# Altium footprint library 6_to_14_Pin.PcbLib: 65 footprints (part 4 of 5)
Each footprint in its own frame and in the unit in brackets; x right, y up, seen from the top. Pads: shape width x height; smd on the part's side, far side on the other; paste and mask are expansions set on the pad; w line width, h text height; cw(c..) or ccw(c..) is an arc to the next point about the centre after c.
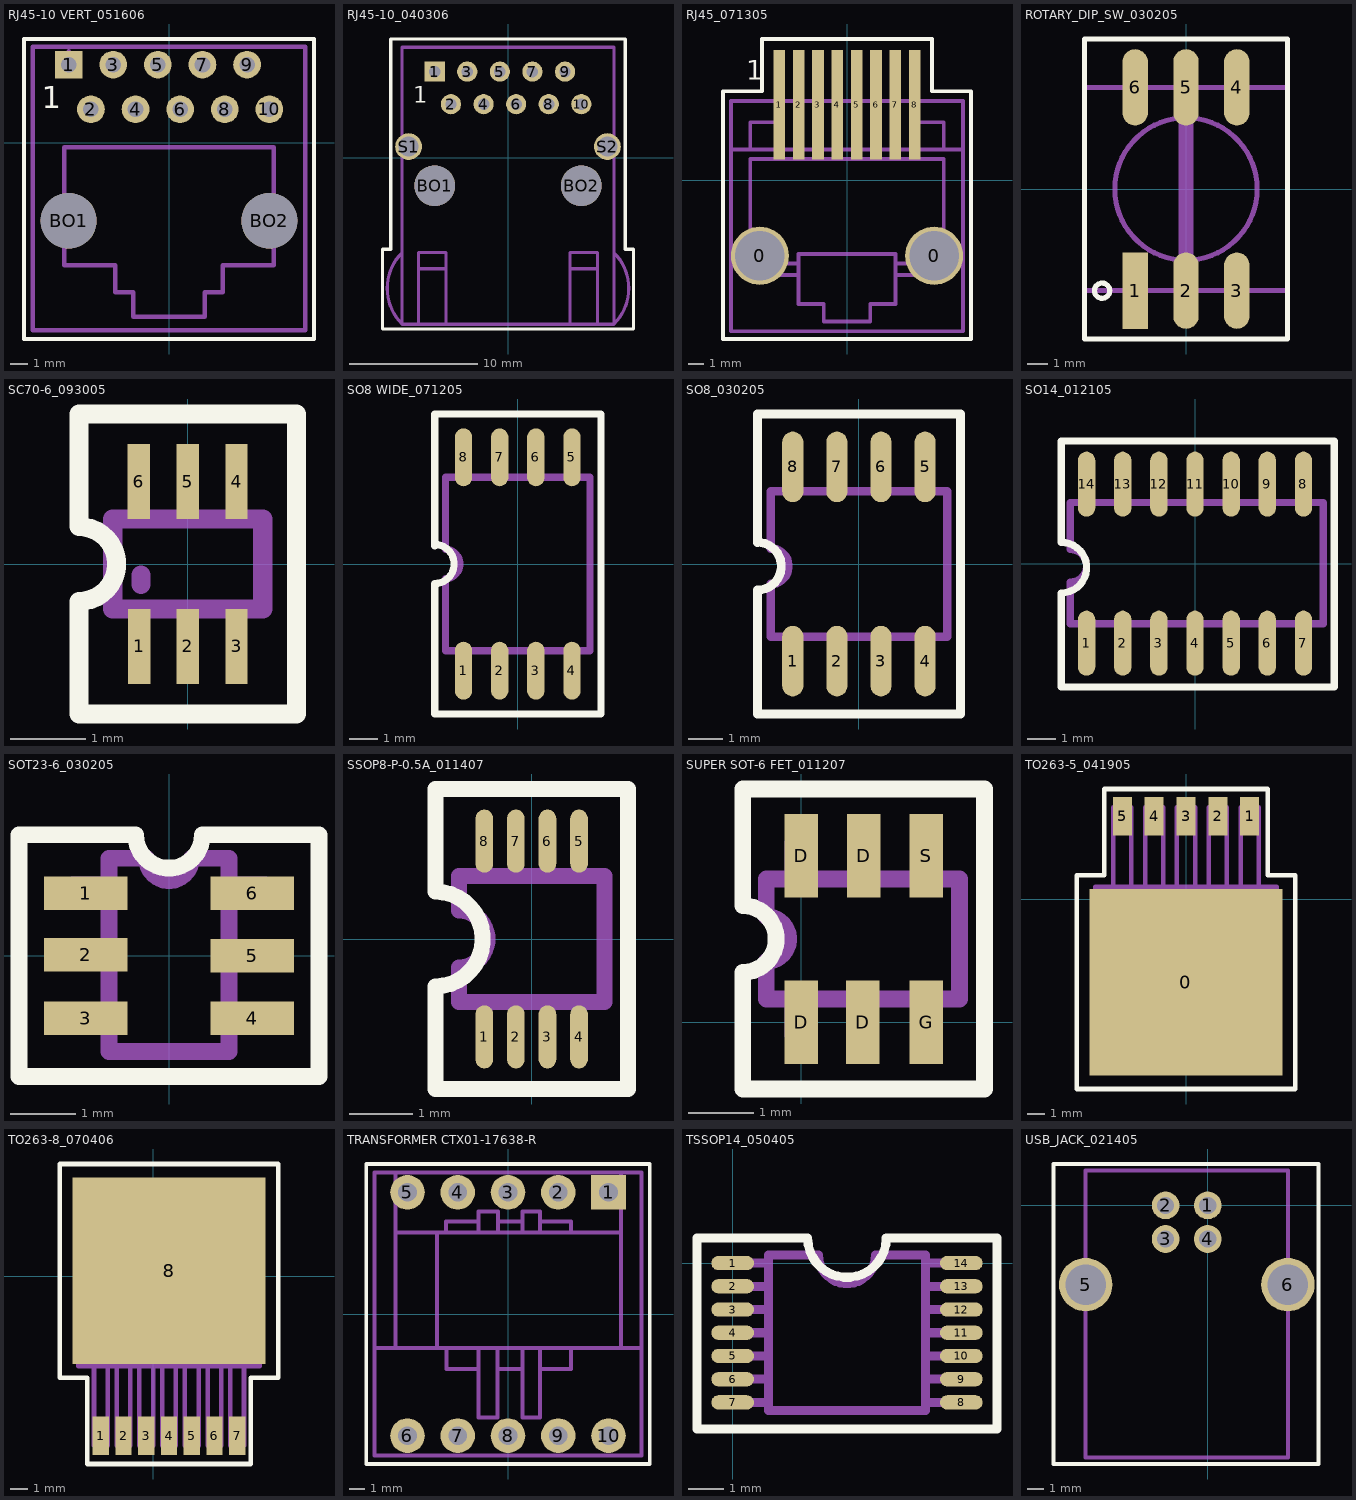
[diagram p3: the footprints below, top view; thin cyan lines are the x and y axes]

## RJ45-10 VERT_051606 [mil] "TH"
height 645
pads (12):
  rect 62x62 hole 35: 1(-225,175)
  round 62 hole 35: 2(-175,75) 3(-125,175) 4(-75,75) 5(-25,175) 6(25,75) 7(75,175) 8(125,75) 9(175,175) 10(225,75)
  round 125 hole 125 unplated: BO1(-225,-175) BO2(225,-175)
Top Overlay:
  lines w10: -325,-440 -325,0 -325,232.5 0,232.5 325,232.5 325,0 325,-440 -325,-440
  text "1" at -285,77.5 h50
Assembly Outline:
  lines w10: -225,-420 0,-420 ; -225,175 -225,205 ; -305,-420 305,-420 305,215 -305,215 -305,-420 ; -235,-275 -235,-10 0,-10 235,-10 235,-275 120,-275 120,-335 80,-335 80,-390 0,-390 -80,-390 -80,-335 -120,-335 -120,-275 -235,-275
Assembly Designator:
  text ".Designator" at -52.5,-87.5 h40
Assembly Comment:
  text ".Comment" at -207.5,-312.5 h40

## RJ45-10_040306 [mil] "TH"
height 600
pads (14):
  rect 62x62 hole 35: 1(-225,265)
  round 62 hole 35: 2(-175,165) 3(-125,265) 4(-75,165) 5(-25,265) 6(25,165) 7(75,265) 8(125,165) 9(175,265) 10(225,165)
  round 125 hole 125 unplated: BO1(-225,-85) BO2(225,-85)
  round 82 hole 62 unplated: S1(-305,35) S2(305,35)
Top Overlay:
  lines w10: -385,-525 0,-525 385,-525 385,-280 360,-280 360,100 360,365 -360,365 -360,100 -360,-280 -385,-280 -385,-525
  text "1" at -290,170 h50
Assembly Outline:
  lines w10: -325,-290 ccw(c-215,-400) -325,-510 ; -275,-510 -275,-290 -190,-290 ; -275,-340 -190,-340 -190,-290 ; -190,-510 -190,-290 ; 190,-510 190,-290 ; 275,-340 190,-340 190,-290 ; 325,-400 325,-510 ; -325,-510 -325,-336 -325,99 -325,340 325,340 325,99 325,-336 325,-510 ; -325,-510 325,-510 ; 190,-290 275,-290 275,-510 325,-510 ; 325,-510 ccw(c215,-400) 325,-290 325,-510
Assembly Designator:
  text ".Designator" at -35,-180 h40
Assembly Comment:
  text ".Comment" at -100,-260 h40

## RJ45_071305 [mil] "SMT"
height 570
pads (10):
  round 150 hole 128 mask+1.5: 0(-225,-195) 0(225,-195)
  rect 30x283 smd mask+1.5: 1(-175,195) 2(-125,195) 3(-75,195) 4(-25,195) 5(25,195) 6(75,195) 7(125,195) 8(175,195)
Top Overlay:
  lines w10: -320,-410 -320,0 -320,230 -220,230 -220,365 0,365 220,365 220,230 320,230 320,0 320,-410 225,-410 0,-410 -225,-410 -320,-410
  text "1" at -260,260 h50
Assembly Outline:
  lines w10: -300,80 300,80 300,205 ; -250,-215 -125,-215 ; -250,80 -250,150 -180,150 -180,80 ; -180,205 -180,295 -170,295 ; -175,295 -170,295 ; -170,205 -170,295 ; -130,205 -130,295 -120,295 ; -125,295 -120,295 ; -120,205 -120,295 ; -80,205 -80,295 -70,295 ; -75,295 -70,295 ; -70,205 -70,295 ; -30,205 -30,295 -20,295 ; -25,295 -20,295 ; -20,205 -20,295 ; 20,205 20,295 30,295 ; 25,295 30,295 ; 30,205 30,295 ; 70,205 70,295 80,295 ; 75,295 80,295 ; 80,205 80,295 ; 120,205 120,295 130,295 ; 125,-215 250,-215 ; 125,295 130,295 ; 130,205 130,295 ; 170,205 170,295 180,295 ; 175,295 180,295 ; 180,80 180,150 250,150 250,80 ; 180,205 180,295 ; -125,-245 -125,-190 0,-190 125,-190 125,-245 ; -125,-245 -125,-320 -60,-320 -60,-365 0,-365 60,-365 60,-320 125,-320 125,-245 ; -125,-245 -250,-245 -250,55 0,55 250,55 250,-245 125,-245 ; 300,205 -300,205 -300,-390 300,-390 300,205
Assembly Designator:
  text ".Designator" at -50,-85 h40
Assembly Comment:
  text ".Comment" at -130,-150 h40

## ROTARY_DIP_SW_030205 [mil] "SMT"
height 370
pads (6):
  rect 50x150 smd: 1(-100,-200)
  oval 50x150 smd: 2(0,-200) 3(100,-200) 4(100,200) 5(0,200) 6(-100,200)
Top Overlay:
  circle w10: c-165,-200 r15
  lines w10: -200,-295 200,-295 200,295 -200,295 -200,-295
Assembly Outline:
  circle w10: c0,0 r140
  region: -110,255 -110,200 -90,200 -90,255
  region: -10,255 -10,200 10,200 10,255
  region: 90,255 90,200 110,200 110,255
  region: 110,-255 110,-200 90,-200 90,-255
  region: -90,-255 -90,-200 -110,-200 -110,-255
  region: 10,-255 10,-200 -10,-200 -10,-255
  lines w10: -200,-200 200,-200 200,200 -200,200 -200,-200
  lines w30: 0,-130 0,130
Assembly Designator:
  text ".Designator" at -43,-77 h40
Assembly Comment:
  text ".Comment" at 186,-182 h40

## SC70-6_093005 [mm] "SMT"
height 1
pads (6):
  rect 0.3x1 smd mask+0.038: 1(-0.65,-1.1) 2(0,-1.1) 3(0.65,-1.1) 4(0.65,1.1) 5(0,1.1) 6(-0.65,1.1)
Top Overlay:
  lines w0.254: -1.45,-2 -1.45,-0.5 ccw(c-1.45,0) -1.45,0.5 -1.45,2 0.375,2 1.45,2 1.45,0 1.45,-2 -0.375,-2 -1.45,-2
Assembly Outline:
  lines w0.254: -1,0 -1,0.6 ; -0.65,-1.1 -0.65,-0.6 ; -0.65,0.6 -0.65,1.1 ; -0.625,-0.275 -0.625,-0.15 ; 0,-1.1 0,-0.6 ; 0,1.1 0,0.6 -1,0.6 ; 0.65,-1.1 0.65,-0.6 ; 0.65,0.6 0.65,1.1 ; -1,-0.6 1,-0.6 ; -1,-0.6 -1,0.6 ; -1,-0.6 1,-0.6 ; -1,0.6 1,0.6 1,-0.6
Assembly Designator:
  text ".Designator" at 1.8,-0.475 h1.02
Assembly Comment:
  text ".Comment" at -1.825,-3.5 h1.02

## SO8 WIDE_071205 [mil] "SMT"
height 80
pads (8):
  oval 24x80 smd: 1(-75,-147.5) 2(-25,-147.5) 3(25,-147.5) 4(75,-147.5) 5(75,147.5) 6(25,147.5) 7(-25,147.5) 8(-75,147.5)
Top Overlay:
  lines w10: -115,25 -115,207.5 115,207.5 115,-207.5 -115,-207.5 -115,-27.04 ccw(c-115,0) -115,27.04
Assembly Outline:
  lines w10: -80,-120 -80,-147.5 -70,-147.5 -70,-120 ; -80,120 -80,147.5 -70,147.5 -70,120 ; -30,-120 -30,-147.5 -20,-147.5 -20,-120 ; -30,120 -30,147.5 -20,147.5 -20,120 ; 20,-120 20,-147.5 30,-147.5 30,-120 ; 20,120 20,147.5 30,147.5 30,120 ; 70,-120 70,-147.5 80,-147.5 80,-120 ; 70,120 70,147.5 80,147.5 80,120 ; -100,-120 100,-120 100,120 -100,120 -100,20 cw(c-100,0) -100,-20 -100,-120
Assembly Designator:
  text ".Designator" at -55,-15.5 h40
Assembly Comment:
  text ".Comment" at -116,-229.5 h40

## SO8_030205 [mil] "SMT"
height 70
pads (8):
  oval 24x80 smd: 1(-75,-110) 2(-25,-110) 3(25,-110) 4(75,-110) 5(75,110) 6(25,110) 7(-25,110) 8(-75,110)
Top Overlay:
  lines w10: -115,-170 -115,-29.54 ccw(c-115,-2.5) -115,24.54 -115,170 115,170 115,-170 -115,-170
Assembly Outline:
  lines w10: -80,-82.5 -80,-110 -70,-110 -70,-82.5 ; -80,82.5 -80,110 -70,110 -70,82.5 ; -30,-82.5 -30,-110 -20,-110 -20,-82.5 ; -30,82.5 -30,110 -20,110 -20,82.5 ; 20,-82.5 20,-110 30,-110 30,-82.5 ; 20,82.5 20,110 30,110 30,82.5 ; 70,-82.5 70,-110 80,-110 80,-82.5 ; 70,82.5 70,110 80,110 80,82.5 ; -100,-82.5 -100,-22.5 ccw(c-100,-2.5) -100,17.5 -100,82.5 100,82.5 100,-82.5 -100,-82.5
Assembly Designator:
  text ".Designator" at -55,22 h40
Assembly Comment:
  text ".Comment" at -116,-192 h40

## SO14_012105 [mil] "SMT"
height 75
pads (14):
  oval 24x90 smd: 1(-150,-110) 2(-100,-110) 3(-50,-110) 4(0,-110) 5(50,-110) 6(100,-110) 7(150,-110) 8(150,110) 9(100,110) 10(50,110) 11(0,110) 12(-50,110) 13(-100,110) 14(-150,110)
Top Overlay:
  lines w10: -185,-170.46 -185,-40.46 ccw(c-185,-5.46) -185,29.54 -185,169.54 192.5,169.54 192.5,-170.46 -185,-170.46
Assembly Outline:
  lines w10: -155,84.54 -155,112.04 -145,112.04 -145,84.54 ; -145,-82.96 -145,-110.46 -155,-110.46 -155,-82.96 ; -105,-82.96 -105,-110.46 -95,-110.46 -95,-82.96 ; -105,84.54 -105,112.04 -95,112.04 -95,84.54 ; -55,-82.96 -55,-110.46 -45,-110.46 -45,-82.96 ; -55,84.54 -55,112.04 -45,112.04 -45,84.54 ; -5,-82.96 -5,-110.46 5,-110.46 5,-82.96 ; -5,84.54 -5,112.04 5,112.04 5,84.54 ; 45,-82.96 45,-110.46 55,-110.46 55,-82.96 ; 45,84.54 45,112.04 55,112.04 55,84.54 ; 95,-82.96 95,-110.46 105,-110.46 105,-82.96 ; 95,84.54 95,112.04 105,112.04 105,84.54 ; 145,-82.96 145,-110.46 155,-110.46 155,-82.96 ; 145,84.54 145,112.04 155,112.04 155,84.54 ; -155,-82.96 -172.5,-82.96 -172.5,-25.46 ccw(c-172.5,-2.96) -172.5,19.54 -172.5,84.54 177.5,84.54 177.5,-82.96 -155,-82.96
Assembly Designator:
  text ".Designator" at -72,-56 h40
Assembly Comment:
  text ".Comment" at -143,17 h40

## SOT23-6_030205 [mil] "SMT"
height 50
pads (6):
  rect 50x20 smd mask+1.5: 1(-50,37.5) 2(-50,0.5) 3(-50,-37.5) 4(50,-37.5) 5(50,0) 6(50,37.5)
Top Overlay:
  lines w10: -90,-72.5 90,-72.5 90,72.5 20,72.5 cw(c0,72.5) -20,72.5 -90,72.5 -90,-37.5 -90,-72.5
Assembly Outline:
  lines w10: -36,-41.5 -58,-41.5 -58,-33.5 -38,-33.5 -36,-31.5 ; -36,-3.5 -58,-3.5 -58,4.5 -36,4.5 ; -36,34.5 -58,34.5 -58,42.5 -36,42.5 ; 36,-41.5 58,-41.5 58,-33.5 36,-33.5 ; 36,-3.5 58,-3.5 58,4.5 36,4.5 ; 36,34.5 58,34.5 58,42.5 36,42.5 ; -36,-57.5 -36,58.5 -13.5,58.5 ccw(c0,58.5) 13.5,58.5 36,58.5 36,-57.5 -36,-57.5
Assembly Designator:
  text ".Designator" at -20,45 h40
Assembly Comment:
  text ".Comment" at 84,69 h40

## SSOP8-P-0.5A_011407 [mm] "SMT"
height 0.7
pads (8):
  oval 0.28x1 smd mask+0.05: 1(-0.75,-1.55) 2(-0.25,-1.55) 3(0.25,-1.55) 4(0.75,-1.55) 5(0.75,1.55) 6(0.25,1.55) 7(-0.25,1.55) 8(-0.75,1.55)
Top Overlay:
  lines w0.254: -1.525,-2.375 0,-2.375 1.525,-2.375 1.525,-0.525 1.525,0 1.525,0.525 1.525,2.375 0,2.375 -1.525,2.375 -1.525,0.75 cw(c-1.525,0) -1.525,-0.75 -1.525,-2.375
Assembly Outline:
  lines w0.254: -0.75,-1.55 -0.75,-1 ; -0.75,1 -0.75,1.55 ; -0.25,-1.55 -0.25,-1 ; -0.25,1 -0.25,1.55 ; 0,1 -1.15,1 ; 0.25,-1.55 0.25,-1 ; 0.25,1 0.25,1.55 ; 0.75,-1.55 0.75,-1 ; 0.75,1 0.75,1.55 ; -1.15,1 -1.15,0.45 cw(c-1.15,0) -1.15,-0.45 -1.15,-1 0.525,-1 1.15,-1 1.15,1 -1.15,1
Assembly Designator:
  text ".Designator" at -0.725,-0.475 h1.02
Assembly Comment:
  text ".Comment" at -1.3,-3.925 h1.02

## SUPER SOT-6 FET_011207 [mil] "SMT"
height 31.5
pads (6):
  rect 20x50 smd mask+1.5: D(0,0) D(0,100) D(37.01,0) D(37.52,100) G(75,0) S(75,100)
Top Overlay:
  lines w10: -35,-40 75,-40 110,-40 110,140 -35,140 -35,70 cw(c-35,50) -35,30 -35,-40
Assembly Outline:
  lines w10: -5,14 -5,-8 3,-8 3,14 ; -5,86 -5,108 3,108 3,86 ; 33,14 33,-8 41,-8 41,14 ; 33,86 33,108 41,108 41,86 ; 69,14 71,12 71,-8 79,-8 79,14 ; 71,86 71,108 79,108 79,86 ; -21,14 95,14 95,86 -21,86 -21,63.5 cw(c-21,50) -21,36.5 -21,14
Assembly Designator:
  text ".Designator" at -7.5,30 h40
Assembly Comment:
  text ".Comment" at -31.5,134 h40

## TO263-5_041905 [mil] "SMT"
height 181.1
pads (6):
  rect 425x410 smd: 0(0,-182.5)
  rect 42x85 smd: 1(140,182.5) 2(70,182.5) 3(0,182.5) 4(-70,182.5) 5(-140,182.5)
Top Overlay:
  lines w10: -240,-417.5 0,-417.5 240,-417.5 240,52.5 180,52.5 180,242.5 -180,242.5 -180,52.5 -240,52.5 -240,-417.5
Assembly Outline:
  lines w10: -160,27.5 -160,202.5 ; -140,27.5 -70,27.5 0,27.5 70,27.5 140,27.5 ; -120,27.5 -120,202.5 ; -90,27.5 -90,202.5 ; -50,27.5 -50,202.5 ; -20,27.5 -20,202.5 ; 20,27.5 20,202.5 ; 50,27.5 50,202.5 ; 90,27.5 90,202.5 ; 120,27.5 120,202.5 ; 160,27.5 160,202.5 ; -200,-312.5 200,-312.5 ; -200,-312.5 -130,-362.5 0,-362.5 130,-362.5 200,-312.5 ; -200,-312.5 -200,27.5 200,27.5 200,-312.5 ; -160,202.5 -140,202.5 -120,202.5 ; -160,202.5 -120,202.5 ; -90,202.5 -70,202.5 -50,202.5 ; -90,202.5 -50,202.5 ; -20,202.5 0,202.5 20,202.5 ; -20,202.5 20,202.5 ; 50,202.5 70,202.5 90,202.5 ; 50,202.5 90,202.5 ; 120,202.5 140,202.5 160,202.5 ; 120,202.5 160,202.5
Assembly Designator:
  text ".Designator" at -52,-204.5 h40
Assembly Comment:
  text ".Comment" at -76,-100.5 h40

## TO263-8_070406 [mil] "SMT"
height 181.1
pads (8):
  rect 36x85 smd mask+1.5: 1(-115,-350) 2(-65,-350) 3(-15,-350) 4(35,-350) 5(85,-350) 6(135,-350) 7(185,-350)
  rect 425x410 smd: 8(35,12.5)
Top Overlay:
  lines w10: -205,-222.5 -145,-222.5 -145,-412.5 215,-412.5 215,-222.5 275,-222.5 275,247.5 35,247.5 -205,247.5 -205,-222.5
Assembly Outline:
  lines w10: -130,-197.5 -130,-372.5 -115,-372.5 -100,-372.5 -100,-197.5 ; -80,-197.5 -80,-372.5 -65,-372.5 -50,-372.5 -50,-197.5 ; -30,-197.5 -30,-372.5 -15,-372.5 0,-372.5 0,-197.5 ; -15,-197.5 35,-197.5 ; 20,-197.5 20,-372.5 35,-372.5 50,-372.5 50,-197.5 ; 70,-197.5 70,-372.5 85,-372.5 100,-372.5 100,-197.5 ; 120,-197.5 120,-372.5 135,-372.5 150,-372.5 150,-197.5 ; 170,-197.5 170,-372.5 185,-372.5 200,-372.5 200,-197.5 ; -165,142.5 -95,192.5 35,192.5 165,192.5 235,142.5 ; -165,142.5 235,142.5 ; -165,142.5 -165,-197.5 235,-197.5 235,142.5
Assembly Designator:
  text ".Designator" at 0,-45 h40
Assembly Comment:
  text ".Comment" at -125,-135 h40

## TRANSFORMER CTX01-17638-R [mm] "TH"
height 18
pads (10):
  rect 2.2x2.2 hole 1.2: 1(6.4,7.75)
  round 2.2 hole 1.2: 2(3.2,7.75) 3(0,7.75) 4(-3.2,7.75) 5(-6.4,7.75) 6(-6.4,-7.75) 7(-3.2,-7.75) 8(0,-7.75) 9(3.2,-7.75) 10(6.4,-7.75)
Top Overlay:
  lines w0.254: -9.025,-9.55 -5.225,-9.55 0,-9.55 5.225,-9.55 9.025,-9.55 9.025,-0.75 9.025,0 9.025,0.75 9.025,9.55 5.225,9.55 0,9.55 -5.225,9.55 -9.025,9.55 -9.025,0.75 -9.025,0 -9.025,-0.75 -9.025,-9.55
Assembly Outline:
  lines w0.254: -8.5,-2.175 8.5,-2.175 ; -8.5,2.175 -8.5,-9 ; -7.95,-2.175 -7.175,-2.175 -7.175,0.575 -7.175,9 ; -7.175,-9 -6.1,-9 ; -7.175,5.2 7.2,5.2 ; -4.525,-2.175 -4.525,5.2 -3.35,5.2 ; -3.95,5.2 -3.95,5.9 -3.05,5.9 -1.875,5.9 ; -3.9,-2.175 -3.9,-3.5 -1.875,-3.5 ; -2,5.2 -1.875,5.2 -1.875,5.9 ; -1.875,-2.175 -1.875,-3.5 ; -0.675,-3.5 0.925,-3.5 ; -0.675,-2.175 -0.675,-6.575 -1.15,-6.575 -1.875,-6.575 -1.875,-3.5 ; -0.625,5.2 -0.625,6.525 -1.35,6.525 -1.875,6.525 -1.875,5.9 ; -0.625,5.9 0.925,5.9 ; 0.925,-2.175 0.925,-3.5 ; 0.925,5.2 0.925,5.9 ; 0.925,5.675 0.925,5.9 ; 1.975,5.2 2.025,5.2 2.025,6.525 1.55,6.525 0.925,6.525 0.925,5.9 ; 2.025,-4.1 2.025,-3.5 4.025,-3.5 4.025,-2.175 ; 2.025,-2.175 2.025,-6.575 0.925,-6.575 0.925,-3.5 ; 2.025,5.7 2.025,5.9 4.025,5.9 4.025,5.2 3.975,5.2 ; 7.2,-9 8.5,-9 ; 7.2,-2.175 7.2,5.2 ; 7.2,9 7.2,5.2 ; -8.5,-9 0,-9 8.5,-9 ; -8.5,-9 -8.5,0 -8.5,9 0,9 8.5,9 8.5,0 8.5,-9
Assembly Designator:
  text ".Designator" at -0.975,0.45 h1.02
Assembly Comment:
  text ".Comment" at -4,-1.45 h1.02

## TSSOP14_050405 [mm] "SMT"
height 1.27
pads (14):
  oval 1.2x0.4 smd mask+0.038: 1(0,0) 2(0,-0.65) 3(0,-1.3) 4(0,-1.95) 5(0,-2.6) 6(0,-3.25) 7(0,-3.9) 8(6.4,-3.9) 9(6.4,-3.25) 10(6.4,-2.6) 11(6.4,-1.95) 12(6.4,-1.3) 13(6.4,-0.65) 14(6.4,0)
Top Overlay:
  lines w0.254: -1,-4.65 -1,0.7 2.1,0.7 ccw(c3.2,0.7) 4.3,0.7 7.4,0.7 7.4,-4.65 -1,-4.65
Assembly Outline:
  lines w0.254: 0,-3.9 1,-3.9 ; 0,-3.25 1,-3.25 ; 0,-2.6 1,-2.6 ; 0,-1.95 1,-1.95 ; 0,-1.3 1,-1.3 ; 0,-0.65 1,-0.65 ; 0,0 1,0 ; 3.2,-4.125 5.4,-4.125 ; 4.8,-4.125 1,-4.125 ; 5.4,-3.9 6.4,-3.9 ; 5.4,-3.25 6.4,-3.25 ; 5.4,-2.6 6.4,-2.6 ; 5.4,-1.95 6.4,-1.95 ; 5.4,-1.3 6.4,-1.3 ; 5.4,-0.65 6.4,-0.65 ; 5.4,0 6.4,0 ; 1,-4.125 1,-2.275 1,0.225 2.4,0.225 ccw(c3.2,0.225) 4,0.225 5.4,0.225 5.4,-4.125 ; 1,-4.125 5.4,-4.125
Assembly Designator:
  text ".Designator" at 1.956,-2.591 h1.02
Assembly Comment:
  text ".Comment" at -0.584,-5.969 h1.02

## USB_JACK_021405 [mil] "TH"
height 450
pads (6):
  round 65 hole 40: 1(0,0) 2(-98.43,0) 3(-98.43,-78.74) 4(0,-78.74)
  round 125 hole 95: 5(-285.83,-185.43) 6(187.79,-185.43)
Top Overlay:
  lines w10: -360.84,-605.43 -300.84,-605.43 44.16,-605.43 259.16,-605.43 259.16,44.57 259.16,96.77 -360.84,96.77 -360.84,44.57 -360.84,-605.43
Assembly Outline:
  lines w10: -285.84,-590.43 188.16,-590.43 188.16,27.57 188.16,81.77 -285.84,81.77 -285.84,27.57 -285.84,-590.43
Assembly Designator:
  text ".Designator" at -127,-229 h40
Assembly Comment:
  text ".Comment" at 80,18 h40